# Altium footprint library 56LEDB03.PcbLib: 1 footprints
Each footprint in its own frame and in the unit in brackets; x right, y up, seen from the top. Pads: shape width x height; smd on the part's side, far side on the other; paste and mask are expansions set on the pad; w line width, h text height; cw(c..) or ccw(c..) is an arc to the next point about the centre after c.
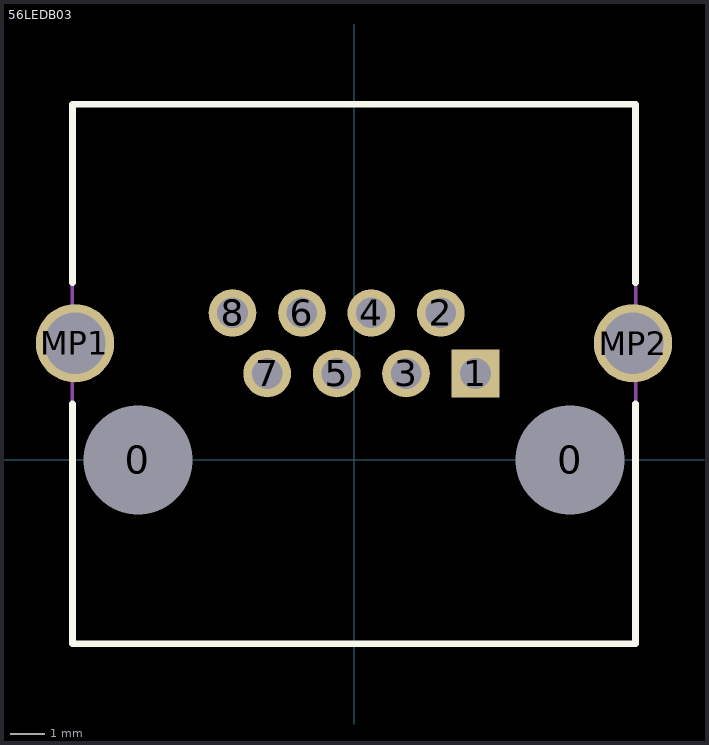
[diagram p0: the footprint, top view; thin cyan lines are the x and y axes]

## 56LEDB03 [mm]
pads (12):
  round 1.6 hole 3.2 unplated: 0(-6.35,0) 0(6.35,0)
  rect 1.4x1.4 hole 0.9: 1(3.57,2.54)
  round 1.4 hole 0.9: 2(2.55,4.32) 3(1.53,2.54) 4(0.51,4.32) 5(-0.51,2.54) 6(-1.53,4.32) 7(-2.55,2.54) 8(-3.57,4.32)
  round 2.3 hole 1.8: MP1(-8.2,3.43) MP2(8.2,3.43)
Top Overlay:
  lines w0.2: -8.275,1.651 -8.275,-5.4 8.275,-5.4 8.275,1.651 ; -8.275,5.207 -8.275,10.45 8.275,10.45 8.275,5.207
Mechanical 13:
  lines w0.1: -8.275,-5.4 -8.275,10.45 8.275,10.45 8.275,-5.4 -8.275,-5.4
3D body: height 14.72, standoff -3.52, extent -9.75,-5.386 9.75,10.464